# Altium footprint library RCL.PcbLib: 86 footprints (part 5 of 6)
Each footprint in its own frame and in the unit in brackets; x right, y up, seen from the top. Pads: shape width x height; smd on the part's side, far side on the other; paste and mask are expansions set on the pad; w line width, h text height; cw(c..) or ccw(c..) is an arc to the next point about the centre after c.
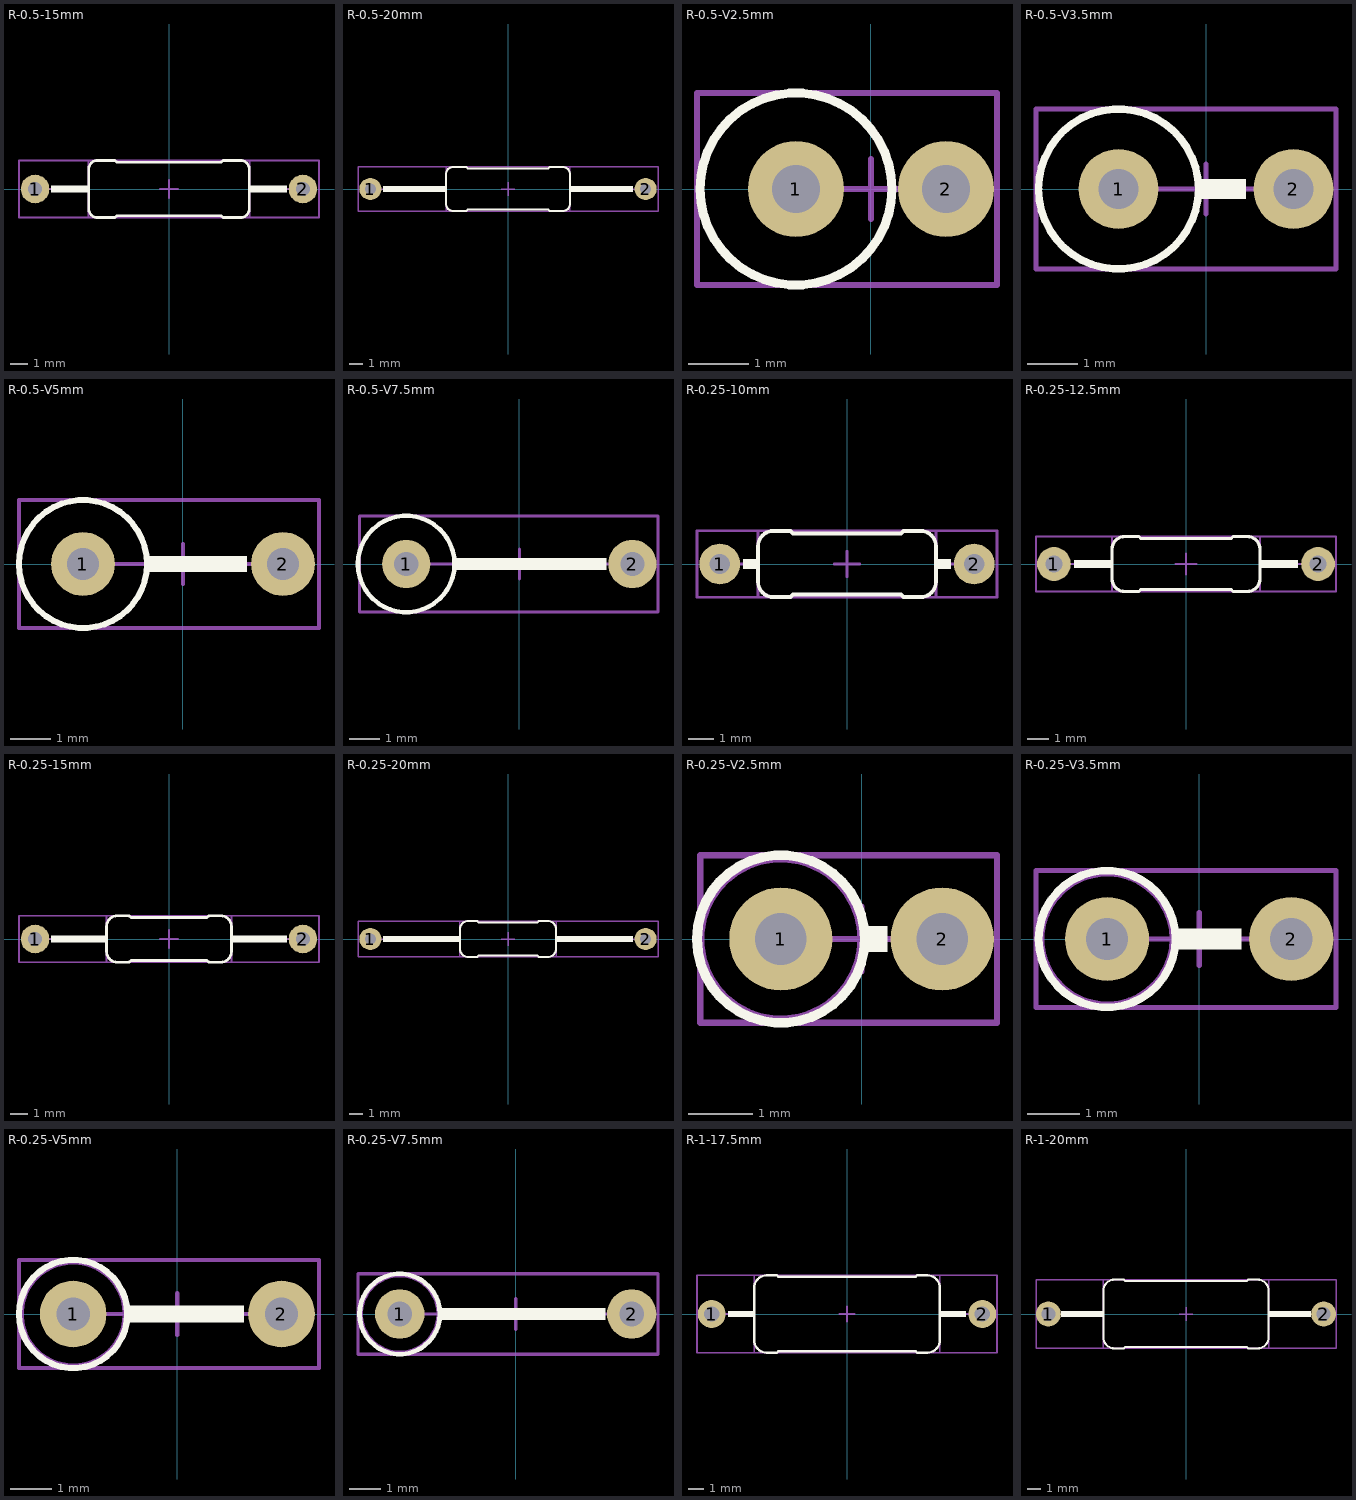
[diagram p4: the footprints below, top view; thin cyan lines are the x and y axes]

## R-0.5-15mm [mm] "Resistor 0,5W horizontal pitch 15 mm"
height 5
pads (2):
  round 1.6 hole 0.8: 1(-7.5,0) 2(7.5,0)
Top Overlay:
  region: 6.6,0.2 4.5,0.2 4.5,-0.2 6.6,-0.2
  rectangle: -6.6,-0.2 -4.5,0.2
  lines w0.15: -4.5,-1.1 ccw(c-4,-1.1) -4,-1.6 -3.025,-1.6 -2.925,-1.5 0,-1.5 2.925,-1.5 3.025,-1.6 4,-1.6 ccw(c4,-1.1) 4.5,-1.1 4.5,0 4.5,1.1 ccw(c4,1.1) 4,1.6 3.025,1.6 2.925,1.5 0,1.5 -2.925,1.5 -3.025,1.6 -4,1.6 ccw(c-4,1.1) -4.5,1.1 -4.5,0 -4.5,-1.1
Top Assembly (Mech3):
  lines w0.1: -7.5,0 -4.5,0 ; 4.5,0 7.5,0 ; -4.5,-1.6 4.5,-1.6 4.5,1.6 -4.5,1.6 -4.5,-1.6
Top Courtyard:
  lines w0.1: -0.5,0 0.5,0 ; 0,-0.5 0,0.5 ; -8.4,-1.6 -8.4,1.6 8.4,1.6 8.4,-1.6 -8.4,-1.6
3D body "R_0,5W__D3,2__L9__Pitch-15__Spacing-0_begie.stp": height 4.1, standoff -2.7, extent -7.8,-1.6 7.8,1.6

## R-0.5-20mm [mm] "Resistor 0,5W horizontal pitch 20 mm"
height 5
pads (2):
  round 1.6 hole 0.8: 1(-10,0) 2(10,0)
Top Overlay:
  region: 9.1,0.2 4.5,0.2 4.5,-0.2 9.1,-0.2
  rectangle: -9.1,-0.2 -4.5,0.2
  lines w0.15: -4.5,-1.1 ccw(c-4,-1.1) -4,-1.6 -3.025,-1.6 -2.925,-1.5 0,-1.5 2.925,-1.5 3.025,-1.6 4,-1.6 ccw(c4,-1.1) 4.5,-1.1 4.5,0 4.5,1.1 ccw(c4,1.1) 4,1.6 3.025,1.6 2.925,1.5 0,1.5 -2.925,1.5 -3.025,1.6 -4,1.6 ccw(c-4,1.1) -4.5,1.1 -4.5,0 -4.5,-1.1
Top Assembly (Mech3):
  lines w0.1: -10,0 -4.5,0 ; 4.5,0 10,0 ; -4.5,-1.6 4.5,-1.6 4.5,1.6 -4.5,1.6 -4.5,-1.6
Top Courtyard:
  lines w0.1: -0.5,0 0.5,0 ; 0,-0.5 0,0.5 ; -10.9,-1.6 -10.9,1.6 10.9,1.6 10.9,-1.6 -10.9,-1.6
3D body "R_0,5W__D3,2__L9__Pitch-20__Spacing-0_begie.stp": height 4.1, standoff -2.7, extent -10.3,-1.6 10.3,1.6

## R-0.5-V2.5mm [mm] "Resistor 0,5W vertical pitch 2.54 mm"
height 12
pads (2):
  round 1.6 hole 0.8: 1(-1.25,0) 2(1.25,0)
Top Overlay:
  circle w0.15: c-1.25,0 r1.6
Top Assembly (Mech3):
  circle w0.1: c-1.25,0 r1.6
  lines w0.1: -1.2,0 1.25,0
Top Courtyard:
  lines w0.1: -0.5,0 0.5,0 ; 0,-0.5 0,0.5 ; -2.9,-1.6 -2.9,1.6 2.1,1.6 2.1,-1.6 -2.9,-1.6
3D body "R_0,5W_VERT__D3,2__L9__Pitch-2,54__Spacing-0_begie.stp": height 13.5, standoff -1.6, extent -2.85,-1.6 1.59,1.6

## R-0.5-V3.5mm [mm] "Resistor 0,5W vertical pitch 3.5 mm"
height 12
pads (2):
  round 1.6 hole 0.8: 1(-1.75,0) 2(1.75,0)
Top Overlay:
  circle w0.15: c-1.75,0 r1.6
  rectangle: -0.15,-0.2 0.8,0.2
Top Assembly (Mech3):
  circle w0.1: c-1.75,0 r1.6
  lines w0.1: -1.75,0 1.75,0
Top Courtyard:
  lines w0.1: -0.5,0 0.5,0 ; 0,-0.5 0,0.5 ; -3.4,-1.6 2.6,-1.6 2.6,1.6 -3.4,1.6 -3.4,-1.6
3D body "R_0,5W_VERT__D3,2__L9__Pitch-3,5__Spacing-0_begie.stp": height 13.5, standoff -1.6, extent -3.35,-1.6 2.05,1.6

## R-0.5-V5mm [mm] "Resistor 0,5W vertical pitch 5 mm"
height 12
pads (2):
  round 1.6 hole 0.8: 1(-2.5,0) 2(2.5,0)
Top Overlay:
  circle w0.15: c-2.5,0 r1.6
  rectangle: -0.9,-0.2 1.6,0.2
Top Assembly (Mech3):
  circle w0.1: c-2.5,0 r1.6
  lines w0.1: -2.5,0 2.5,0
Top Courtyard:
  lines w0.1: -0.5,0 0.5,0 ; 0,-0.5 0,0.5 ; -4.1,-1.6 3.4,-1.6 3.4,1.6 -4.1,1.6 -4.1,-1.6
3D body "R_0,5W_VERT__D3,2__L9__Pitch-5__Spacing-0_begie.stp": height 13.5, standoff -1.6, extent -4.1,-1.6 2.8,1.6

## R-0.5-V7.5mm [mm] "Resistor 0,5W vertical pitch 7.5 mm"
height 12
pads (2):
  round 1.6 hole 0.8: 1(-3.75,0) 2(3.75,0)
Top Overlay:
  circle w0.15: c-3.75,0 r1.6
  rectangle: -2.15,-0.2 2.9,0.2
Top Assembly (Mech3):
  circle w0.1: c-3.75,0 r1.6
  lines w0.1: -3.75,0 3.75,0
Top Courtyard:
  lines w0.1: -0.5,0 0.5,0 ; 0,-0.5 0,0.5 ; -5.3,-1.6 -5.3,1.6 4.6,1.6 4.6,-1.6 -5.3,-1.6
3D body "R_0,5W_VERT__D3,2__L9__Pitch-7,5__Spacing-0_begie.stp": height 13.5, standoff -1.6, extent -5.35,-1.6 4.05,1.6

## R-0.25-10mm [mm] "Resistor 0,25W horizontal pitch 10 mm"
height 5
pads (2):
  round 1.6 hole 0.8: 1(-5,0) 2(5,0)
Top Overlay:
  region: 4.1,0.2 3.5,0.2 3.5,-0.2 4.1,-0.2
  rectangle: -4.1,-0.2 -3.5,0.2
  lines w0.15: -3.5,-0.7 ccw(c-2.9,-0.7) -2.9,-1.3 -2.225,-1.3 -2.125,-1.2 0,-1.2 2.125,-1.2 2.225,-1.3 2.9,-1.3 ccw(c2.9,-0.7) 3.5,-0.7 3.5,0.7 ccw(c2.9,0.7) 2.9,1.3 2.225,1.3 2.125,1.2 0,1.2 -2.125,1.2 -2.225,1.3 -2.9,1.3 ccw(c-2.9,0.7) -3.5,0.7 -3.5,-0.7
Top Assembly (Mech3):
  lines w0.1: -5,0 -3.5,0 ; 3.5,0 5,0 ; -3.5,-1.3 3.5,-1.3 3.5,1.3 -3.5,1.3 -3.5,-1.3
Top Courtyard:
  lines w0.1: -0.5,0 0.5,0 ; 0,-0.5 0,0.5 ; -5.9,-1.3 -5.9,1.3 5.9,1.3 5.9,-1.3 -5.9,-1.3
3D body "R_0,5W__D2,5__L6,8__Pitch-10__Spacing-0_begie.stp": height 3.25, standoff -2.85, extent -5.3,-1.25 5.3,1.25

## R-0.25-12.5mm [mm] "Resistor 0,25W horizontal pitch 12.5 mm"
height 5
pads (2):
  round 1.6 hole 0.8: 1(-6.25,0) 2(6.25,0)
Top Overlay:
  rectangle: -5.3,-0.2 -3.5,0.2
  region: 5.3,0.2 3.5,0.2 3.5,-0.2 5.3,-0.2
  lines w0.15: -3.5,-0.7 ccw(c-2.9,-0.7) -2.9,-1.3 -2.225,-1.3 -2.125,-1.2 0,-1.2 2.125,-1.2 2.225,-1.3 2.9,-1.3 ccw(c2.9,-0.7) 3.5,-0.7 3.5,0.7 ccw(c2.9,0.7) 2.9,1.3 2.225,1.3 2.125,1.2 0,1.2 -2.125,1.2 -2.225,1.3 -2.9,1.3 ccw(c-2.9,0.7) -3.5,0.7 -3.5,-0.7
Top Assembly (Mech3):
  lines w0.1: -6.25,0 -3.5,0 ; 3.5,0 6.25,0 ; -3.5,-1.3 -3.5,1.3 3.5,1.3 3.5,-1.3 -3.5,-1.3
Top Courtyard:
  lines w0.1: -0.5,0 0.5,0 ; 0,-0.5 0,0.5 ; -7.1,-1.3 7.1,-1.3 7.1,1.3 -7.1,1.3 -7.1,-1.3
3D body "R_0,5W__D2,5__L6,8__Pitch-12,5__Spacing-0_begie.stp": height 3.25, standoff -2.85, extent -6.55,-1.25 6.55,1.25

## R-0.25-15mm [mm] "Resistor 0,25W horizontal pitch 15 mm"
height 5
pads (2):
  round 1.6 hole 0.8: 1(-7.5,0) 2(7.5,0)
Top Overlay:
  region: 6.6,0.2 3.5,0.2 3.5,-0.2 6.6,-0.2
  rectangle: -6.6,-0.2 -3.5,0.2
  lines w0.15: -3.5,-0.7 ccw(c-2.9,-0.7) -2.9,-1.3 -2.225,-1.3 -2.125,-1.2 0,-1.2 2.125,-1.2 2.225,-1.3 2.9,-1.3 ccw(c2.9,-0.7) 3.5,-0.7 3.5,0.7 ccw(c2.9,0.7) 2.9,1.3 2.225,1.3 2.125,1.2 0,1.2 -2.125,1.2 -2.225,1.3 -2.9,1.3 ccw(c-2.9,0.7) -3.5,0.7 -3.5,-0.7
Top Assembly (Mech3):
  lines w0.1: -7.5,0 -3.5,0 ; 3.5,0 7.5,0 ; -3.5,-1.3 3.5,-1.3 3.5,1.3 -3.5,1.3 -3.5,-1.3
Top Courtyard:
  lines w0.1: -0.5,0 0.5,0 ; 0,-0.5 0,0.5 ; -8.4,-1.3 -8.4,1.3 8.4,1.3 8.4,-1.3 -8.4,-1.3
3D body "R_0,5W__D2,5__L6,8__Pitch-15__Spacing-0_begie.stp": height 3.25, standoff -2.85, extent -7.8,-1.25 7.8,1.25

## R-0.25-20mm [mm] "Resistor 0,25W horizontal pitch 20 mm"
height 5
pads (2):
  round 1.6 hole 0.8: 1(-10,0) 2(10,0)
Top Overlay:
  rectangle: -9.1,-0.2 -3.5,0.2
  region: 9.1,0.2 3.5,0.2 3.5,-0.2 9.1,-0.2
  lines w0.15: -3.5,-0.7 ccw(c-2.9,-0.7) -2.9,-1.3 -2.225,-1.3 -2.125,-1.2 0,-1.2 2.125,-1.2 2.225,-1.3 2.9,-1.3 ccw(c2.9,-0.7) 3.5,-0.7 3.5,0.7 ccw(c2.9,0.7) 2.9,1.3 2.225,1.3 2.125,1.2 0,1.2 -2.125,1.2 -2.225,1.3 -2.9,1.3 ccw(c-2.9,0.7) -3.5,0.7 -3.5,-0.7
Top Assembly (Mech3):
  lines w0.1: -10,0 -3.5,0 ; 3.5,0 10,0 ; -3.5,-1.3 -3.5,1.3 3.5,1.3 3.5,-1.3 -3.5,-1.3
Top Courtyard:
  lines w0.1: -0.5,0 0.5,0 ; 0,-0.5 0,0.5 ; -10.9,-1.3 10.9,-1.3 10.9,1.3 -10.9,1.3 -10.9,-1.3
3D body "R_0,5W__D2,5__L6,8__Pitch-20__Spacing-0_begie.stp": height 3.25, standoff -2.85, extent -10.3,-1.25 10.3,1.25

## R-0.25-V2.5mm [mm] "Resistor 0,25W vertical pitch 2.54 mm"
height 10
pads (2):
  round 1.6 hole 0.8: 1(-1.25,0) 2(1.25,0)
Top Overlay:
  circle w0.15: c-1.25,0 r1.3
  rectangle: 0,-0.2 0.4,0.2
Top Assembly (Mech3):
  circle w0.1: c-1.25,0 r1.238
  lines w0.1: -1.2,0 1.25,0
Top Courtyard:
  lines w0.1: -0.5,0 0.5,0 ; 0,-0.5 0,0.5 ; -2.5,-1.3 2.1,-1.3 2.1,1.3 -2.5,1.3 -2.5,-1.3
3D body "R_0,5W_VERT__D2,5__L6,8__Pitch-2,54__Spacing-0_begie.stp": height 11.3, standoff -1.6, extent -2.5,-1.25 1.59,1.25

## R-0.25-V3.5mm [mm] "Resistor 0,25W vertical pitch 3.5 mm"
height 10
pads (2):
  round 1.6 hole 0.8: 1(-1.75,0) 2(1.75,0)
Top Overlay:
  circle w0.15: c-1.75,0 r1.3
  rectangle: -0.45,-0.2 0.8,0.2
Top Assembly (Mech3):
  circle w0.1: c-1.75,0 r1.238
  lines w0.1: -1.75,0 1.75,0
Top Courtyard:
  lines w0.1: -0.5,0 0.5,0 ; 0,-0.5 0,0.5 ; -3.1,-1.3 -3.1,1.3 2.6,1.3 2.6,-1.3 -3.1,-1.3
3D body "R_0,5W_VERT__D2,5__L6,8__Pitch-3,5__Spacing-0_begie.stp": height 11.3, standoff -1.6, extent -3,-1.25 2.05,1.25

## R-0.25-V5mm [mm] "Resistor 0,25W vertical pitch 5 mm"
height 10
pads (2):
  round 1.6 hole 0.8: 1(-2.5,0) 2(2.5,0)
Top Overlay:
  circle w0.15: c-2.5,0 r1.3
  rectangle: -1.2,-0.2 1.6,0.2
Top Assembly (Mech3):
  circle w0.1: c-2.5,0 r1.238
  lines w0.1: -2.5,0 2.5,0
Top Courtyard:
  lines w0.1: -0.5,0 0.5,0 ; 0,-0.5 0,0.5 ; -3.8,-1.3 3.4,-1.3 3.4,1.3 -3.8,1.3 -3.8,-1.3
3D body "R_0,5W_VERT__D2,5__L6,8__Pitch-5__Spacing-0_begie.stp": height 11.3, standoff -1.6, extent -3.75,-1.25 2.8,1.25

## R-0.25-V7.5mm [mm] "Resistor 0,25W vertical pitch 7.5 mm"
height 10
pads (2):
  round 1.6 hole 0.8: 1(-3.75,0) 2(3.75,0)
Top Overlay:
  circle w0.15: c-3.75,0 r1.3
  rectangle: -2.4,-0.2 2.9,0.2
Top Assembly (Mech3):
  circle w0.1: c-3.75,0 r1.238
  lines w0.1: -3.75,0 3.75,0
Top Courtyard:
  lines w0.1: -0.5,0 0.5,0 ; 0,-0.5 0,0.5 ; -5.1,-1.3 -5.1,1.3 4.6,1.3 4.6,-1.3 -5.1,-1.3
3D body "R_0,5W_VERT__D2,5__L6,8__Pitch-7,5__Spacing-0_begie.stp": height 11.3, standoff -1.6, extent -5,-1.25 4.05,1.25

## R-1-17.5mm [mm] "Resistor 1W horizontal pitch 17.5 mm"
height 7
pads (2):
  round 1.8 hole 1: 1(-8.75,0) 2(8.75,0)
Top Overlay:
  rectangle: -7.7,-0.2 -6,0.2
  region: 7.7,0.2 6,0.2 6,-0.2 7.7,-0.2
  lines w0.15: -6,-1.7 ccw(c-5.2,-1.7) -5.2,-2.5 -4.525,-2.5 -4.425,-2.4 0,-2.4 4.425,-2.4 4.525,-2.5 5.2,-2.5 ccw(c5.2,-1.7) 6,-1.7 6,0 6,1.7 ccw(c5.2,1.7) 5.2,2.5 4.525,2.5 4.425,2.4 0,2.4 -4.425,2.4 -4.525,2.5 -5.2,2.5 ccw(c-5.2,1.7) -6,1.7 -6,0 -6,-1.7
Top Assembly (Mech3):
  lines w0.1: -8.75,0 -6,0 ; 6,0 8.75,0 ; -6,-2.5 -6,2.5 6,2.5 6,-2.5 -6,-2.5
Top Courtyard:
  lines w0.1: -0.5,0 0.5,0 ; 0,-0.5 0,0.5 ; -9.7,-2.5 9.7,-2.5 9.7,2.5 -9.7,2.5 -9.7,-2.5
3D body "R_1W__D5__L12__Pitch-17,5__Spacing-0_begie.stp": height 5.5, standoff -3.1, extent -9.1,-2.499 9.1,2.5

## R-1-20mm [mm] "Resistor 1W horizontal pitch 20 mm"
height 7
pads (2):
  round 1.8 hole 1: 1(-10,0) 2(10,0)
Top Overlay:
  region: 9.1,0.2 6,0.2 6,-0.2 9.1,-0.2
  rectangle: -9.1,-0.2 -6,0.2
  lines w0.15: -6,-1.7 ccw(c-5.2,-1.7) -5.2,-2.5 -4.525,-2.5 -4.425,-2.4 0,-2.4 4.425,-2.4 4.525,-2.5 5.2,-2.5 ccw(c5.2,-1.7) 6,-1.7 6,0 6,1.7 ccw(c5.2,1.7) 5.2,2.5 4.525,2.5 4.425,2.4 0,2.4 -4.425,2.4 -4.525,2.5 -5.2,2.5 ccw(c-5.2,1.7) -6,1.7 -6,0 -6,-1.7
Top Assembly (Mech3):
  lines w0.1: -10,0 -6,0 ; 6,0 10,0 ; -6,-2.5 6,-2.5 6,2.5 -6,2.5 -6,-2.5
Top Courtyard:
  lines w0.1: -0.5,0 0.5,0 ; 0,-0.5 0,0.5 ; -10.9,-2.5 -10.9,2.5 10.9,2.5 10.9,-2.5 -10.9,-2.5
3D body "R_1W__D5__L12__Pitch-20__Spacing-0_begie.stp": height 5.5, standoff -3.1, extent -10.35,-2.499 10.35,2.5